# Altium footprint library 1054500101.PcbLib: 1 footprints
Each footprint in its own frame and in the unit in brackets; x right, y up, seen from the top. Pads: shape width x height; smd on the part's side, far side on the other; paste and mask are expansions set on the pad; w line width, h text height; cw(c..) or ccw(c..) is an arc to the next point about the centre after c.
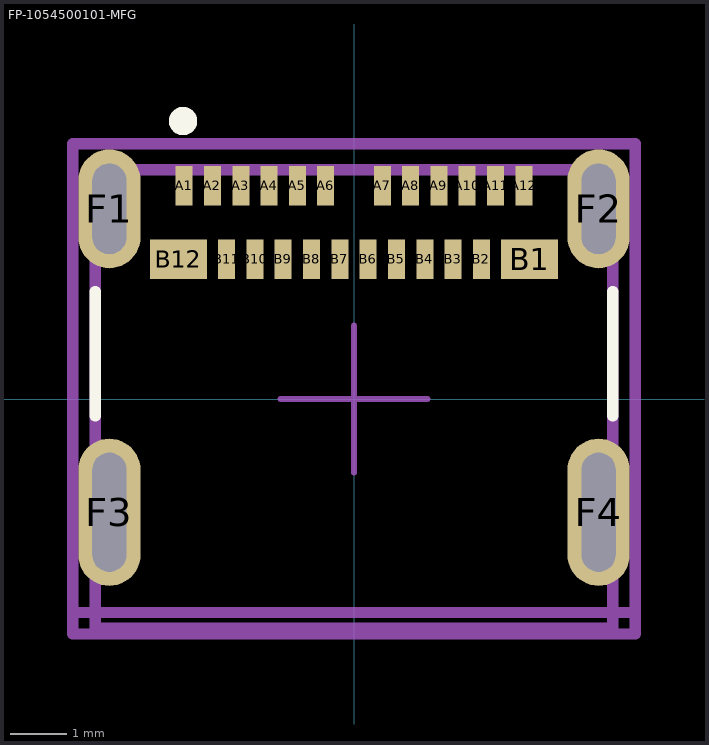
[diagram p0: the footprint, top view; thin cyan lines are the x and y axes]

## FP-1054500101-MFG [mm]
pads (28):
  rect 0.3x0.7 smd paste+0 mask+0: A1(-3,3.77) A2(-2.5,3.77) A3(-2,3.77) A4(-1.5,3.77) A5(-1,3.77) A6(-0.5,3.77) A7(0.5,3.77) A8(1,3.77) A9(1.5,3.77) A10(2,3.77) A11(2.5,3.77) A12(3,3.77) B2(2.25,2.47) B3(1.75,2.47) B4(1.25,2.47) B5(0.75,2.47) B6(0.25,2.47) B7(-0.25,2.47) B8(-0.75,2.47) B9(-1.25,2.47) B10(-1.75,2.47) B11(-2.25,2.47)
  rect 1x0.7 smd paste+0 mask+0: B1(3.1,2.47) B12(-3.1,2.47)
  rrect100% 1.1x2.1 hole 1.6 slot 0.6 at 0 deg paste-2539.97 mask+0: F1(-4.32,3.36) F2(4.32,3.36)
  rrect100% 1.1x2.6 hole 2.1 slot 0.6 at 0 deg paste-2539.97 mask+0: F3(-4.32,-2) F4(4.32,-2)
Top Overlay:
  circle w0.25: c-3.02,4.91 r0.125
  lines w0.2: -4.57,-0.3 -4.57,1.9 ; 4.57,-0.3 4.57,1.9
Top Assembly:
  lines w0.2: -4.97,-3.77 4.97,-3.77 ; -4.57,-4.05 4.57,-4.05 4.57,4.05 -4.57,4.05 -4.57,-4.05
Top Courtyard:
  lines w0.2: -4.97,-4.15 4.97,-4.15 4.97,4.51 -4.97,4.51 -4.97,-4.15
Top Designator:
  text ".Designator" at 0,0.368 h1
Top Component Center:
  lines w0.1: -1.299,0 1.299,0 ; 0,-1.299 0,1.299
3D body "1054500101.stp": height 3.21, standoff -0.75, extent -4.47,-3.9 4.47,4